# Altium schematic symbol library naveedk_symbols.schlib: 25 symbols
Pins are listed as number, name and electrical type; pins without a type are passive.

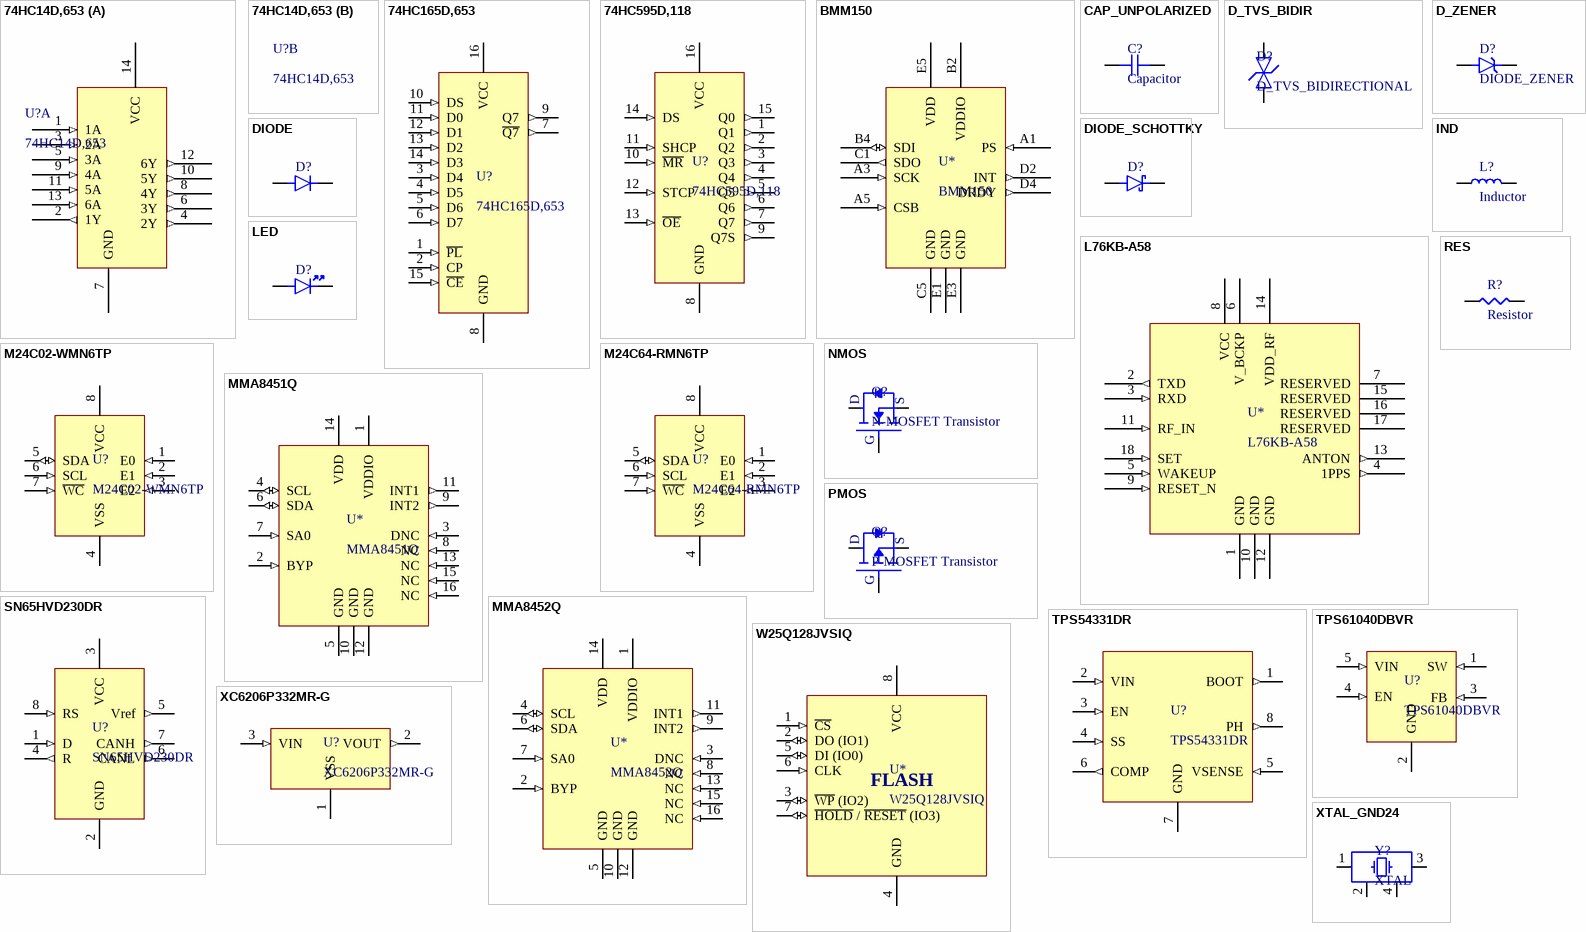
[diagram p0: symbols 74HC14D,653 to XTAL_GND24]

## 74HC14D,653
designator U?
IC INVERT SCHMITT 6CH 1-INP 14SO; Manufacturer: Nexperia USA Inc.; Manufacturer Part Number: IC INVERT SCHMITT 6CH 1-INP 14SO; Datasheet: https://assets.nexperia.com/documents/data-sheet/74HC_HCT14.pdf; LCSC Part #: C5605
part A pins: 1 1A (in), 2 1Y (out), 3 2A (in), 4 2Y (out), 5 3A (in), 6 3Y (out), 7 GND (power), 8 4Y (out), 9 4A (in), 10 5Y (out), 11 5A (in), 12 6Y (out), 13 6A (in), 14 VCC (power)

## 74HC165D,653
designator U?
IC SR COMPLEMENTARY 8BIT 16-SO; Manufacturer: Nexperia USA Inc.; Manufacturer Part Number: 74HC165D,653; Datasheet: https://assets.nexperia.com/documents/data-sheet/74HC_HCT165.pdf; LCSC Part #: C5613
footprint SOIC127P600X175-16N (SOIC, 16-Leads, Body 9.90x3.90mm, Pitch 1.27mm, IPC Medium Density)
pins: 1 ~{PL} (in), 2 CP (in), 3 D4 (in), 4 D5 (in), 5 D6 (in), 6 D7 (in), 7 ~{Q7} (out), 8 GND (power), 9 Q7 (out), 10 DS (in), 11 D0 (in), 12 D1 (in), 13 D2 (in), 14 D3 (in), 15 ~{CE} (in), 16 VCC (power)

## 74HC595D,118
designator U?
IC SHFT REG TRI-STATE 8BIT 16-SO; Manufacturer: Nexperia USA Inc.; Manufacturer Part Number: 74HC595D,118; LCSC Part #: C5947; Datasheet: https://assets.nexperia.com/documents/data-sheet/74HC_HCT595.pdf
footprint SOIC127P600X175-16N (SOIC, 16-Leads, Body 9.90x3.90mm, Pitch 1.27mm, IPC Medium Density)
pins: 1 Q1 (out), 2 Q2 (out), 3 Q3 (out), 4 Q4 (out), 5 Q5 (out), 6 Q6 (out), 7 Q7 (out), 8 GND (power), 9 Q7S (out), 10 ~{MR} (in), 11 SHCP (in), 12 STCP (in), 13 ~{OE} (in), 14 DS (in), 15 Q0 (out), 16 VCC (power)

## BMM150
designator U*
SEN FLIP/HALL I2C/SPI 12WLCSP; Manufacturer: Bosch Sensortec; Manufacturer Part Number: BMM150; LCSC Part #: C171681
pins: A1 PS (in), A3 SCK (in), A5 CSB (in), B2 VDDIO (power), B4 SDI (io), C1 SDO (out), C5 GND (power), D2 INT (out), D4 DRDY (out), E1 GND (power), E3 GND (power), E5 VDD (power)

## CAP_UNPOLARIZED
designator C?, comment Capacitor
Capacitor Non-Polarized 2-Pin; Manufacturer: *; Manufacturer Part Number: *; Distributor Link: *; LCSC: *; Rating: *; Dielectric: *
pins: 1, 2

## D_TVS_BIDIR
designator D?, comment D_TVS_BIDIRECTIONAL
Diode TVS / ESD Bidirectional; Manufacturer: *; Manufacturer Part Number: *
footprint D_0603
pins: A, K

## D_ZENER
designator D?, comment DIODE_ZENER
Diode Zener 2-pin
footprint SOD-323
pins: A, K

## DIODE
designator D?, comment Diode  (value not drawn)
Diode SMD 2-Pin
pins: A, K

## DIODE_SCHOTTKY
designator D?  (value not drawn)
Schottky Diode 2-Pin
pins: A, K

## IND
designator L?, comment Inductor
Inductor SMD 2-Pin
pins: 1, 2

## L76KB-A58
designator U*
RF TXRX MODULE NAVIGATION SMD; Manufacturer: Quectel; LCSC Part #: C2916234; Manufacturer Part Number: L76KB-A58
pins: 1 GND (power), 2 TXD (out), 3 RXD (in), 4 1PPS (out), 5 WAKEUP (in), 6 V_BCKP (power), 7 RESERVED, 8 VCC (power), 9 RESET_N (in), 10 GND (power), 11 RF_IN (in), 12 GND (power), 13 ANTON (out), 14 VDD_RF (power), 15 RESERVED, 16 RESERVED, 17 RESERVED, 18 SET (in)

## LED
designator D?  (value not drawn)
LED SMD 2-Pin
pins: A, K

## M24C02-WMN6TP
designator U?
IC EEPROM 2KBIT I2C 400KHZ 8SOIC; Manufacturer: STMicroelectronics; Manufacturer Part Number: M24C02-WMN6TP; LCSC Part #: C7562
footprint SOIC127P600X175-8N (SOIC, 8-Leads, Body 4.93x3.90mm, Pitch 1.27mm, IPC Medium Density)
pins: 1 E0 (in), 2 E1 (in), 3 E2 (in), 4 VSS (power), 5 SDA (io), 6 SCL (in), 7 ~{WC} (in), 8 VCC (power)

## M24C64-RMN6TP
designator U?
IC EEPROM 64KBIT I2C 1MHZ 8SOIC; Manufacturer: STMicroelectronics; Manufacturer Part Number: M24C64-RMN6TP; LCSC Part #: C79988
footprint SOIC127P600X175-8N (SOIC, 8-Leads, Body 4.93x3.90mm, Pitch 1.27mm, IPC Medium Density)
pins: 1 E0 (in), 2 E1 (in), 3 E2 (in), 4 VSS (power), 5 SDA (io), 6 SCL (in), 7 ~{WC} (in), 8 VCC (power)

## MMA8451Q
designator U*
ACCELEROMETER 2-8G I2C 16QFN; Manufacturer: NXP USA Inc.; Manufacturer Part Number: MMA8451Q; LCSC Part #: C11360
footprint QFN50P308X308X100-16N (QFN, 16-Leads, Body 3.08x3.08mm, Pitch 0.50mm, IPC Medium Density)
pins: 1 VDDIO (power), 2 BYP (in), 3 DNC (in), 4 SCL (io), 5 GND (power), 6 SDA (io), 7 SA0 (in), 8 NC (in), 9 INT2 (out), 10 GND (power), 11 INT1 (out), 12 GND (power), 13 NC (in), 14 VDD (power), 15 NC (in), 16 NC (in)

## MMA8452Q
designator U*
ACCELEROMETER 2-8G I2C 16QFN; Manufacturer: NXP USA Inc.; Manufacturer Part Number: MMA8452Q; LCSC Part #: C118083
footprint QFN50P308X308X100-16N (QFN, 16-Leads, Body 3.08x3.08mm, Pitch 0.50mm, IPC Medium Density)
pins: 1 VDDIO (power), 2 BYP (in), 3 DNC (in), 4 SCL (io), 5 GND (power), 6 SDA (io), 7 SA0 (in), 8 NC (in), 9 INT2 (out), 10 GND (power), 11 INT1 (out), 12 GND (power), 13 NC (in), 14 VDD (power), 15 NC (in), 16 NC (in)

## NMOS
designator Q?, comment N-MOSFET Transistor
N-Channel MOSFET; Manufacturer: Nexperia; Manufacturer Part Number: 2N7002NXAKR
footprint SSM3J338R,LF-SOT23-F
pins: D, G, S

## PMOS
designator Q?, comment P-MOSFET Transistor
P-Channel MOSFET; Manufacturer: Diodes Incorporated; Manufacturer Part Number: DMP6050SPS-13
footprint PowerDI5060-8
pins: 1 D, 2 G, 3 S

## RES
designator R?, comment Resistor
Resistor 2-pin
pins: 1, 2

## SN65HVD230DR
designator U?
IC TRANSCEIVER HALF 1/1 8SOIC; Manufacturer: Texas Instruments; LCSC Part #: C12084; Manufacturer Part Number: SN65HVD230DR; Datasheet: https://www.ti.com/lit/ds/symlink/sn65hvd230.pdf
footprint SOIC127P600X175-8N (SOIC, 8-Leads, Body 4.93x3.90mm, Pitch 1.27mm, IPC Medium Density)
pins: 1 D (in), 2 GND (power), 3 VCC (power), 4 R (out), 5 Vref (out), 6 CANL (out), 7 CANH (out), 8 RS (in)

## TPS54331DR
designator U?
IC REG BUCK ADJ 3A 8SOIC; Manufacturer: Texas Instruments; Manufacturer Part Number: TPS54331DR; LCSC Part #: C9865; Datasheet: https://www.ti.com/lit/ds/symlink/tps54331.pdf
footprint SOIC127P600X175-8N (SOIC, 8-Leads, Body 4.93x3.90mm, Pitch 1.27mm, IPC Medium Density)
pins: 1 BOOT (out), 2 VIN (in), 3 EN (in), 4 SS (in), 5 VSENSE (in), 6 COMP (out), 7 GND (power), 8 PH (out)

## TPS61040DBVR
designator U?
IC LED DRVR RGLTR PWM SOT23-5; Manufacturer: Texas Instruments; Datasheet: https://www.ti.com/lit/ds/symlink/tps61041.pdf; Manufacturer Part Number: TPS61040DBVR; LCSC Part #: C7722
footprint SOT95P280X145-5N (SOT23, 5-Leads, Body 2.90x2.80mm, Pitch 0.95mm, IPC Medium Density)
pins: 1 SW (in), 2 GND (power), 3 FB (in), 4 EN (in), 5 VIN (in)

## W25Q128JVSIQ
designator U*
IC FLASH 128MBIT SPI/QUAD 8SOIC; Manufacturer: Winbond Electronics; Manufacturer Part Number: W25Q128JVSIQ; LCSC Part #: C97521; Datasheet: https://mm.digikey.com/Volume0/opasdata/d220001/medias/docus/7161/256_W25Q128JV.pdf
footprint SOIC127P790X216-8N (SOIC, 8-Leads, Body 5.28x5.28mm, Pitch 1.27mm, IPC Medium Density)
pins: 1 ~{CS} (in), 2 DO (IO1) (io), 3 ~{WP} (IO2) (io), 4 GND (power), 5 DI (IO0) (io), 6 CLK (in), 7 ~{HOLD} / ~{RESET} (IO3) (io), 8 VCC (power)
text: FLASH

## XC6206P332MR-G
designator U?
IC REG LINEAR 3.3V 200MA SOT23; Manufacturer: Torex Semiconductor Ltd; Manufacturer Part Number: XC6206P332MR-G; LCSC Part #: C5446; Datasheet: https://product.torexsemi.com/system/files/series/xc6206.pdf
pins: 1 VSS (power), 2 VOUT (out), 3 VIN (in)

## XTAL_GND24
designator Y?, comment XTAL
Crystal SMD 4-Pin; Distributor Link: *
footprint XTAL_2016
pins: 1, 2, 3, 4